# Altium footprint library PCB - POWER INDUCTORS - TDK SLF12555.PCBLIB: 1 footprints
Each footprint in its own frame and in the unit in brackets; x right, y up, seen from the top. Pads: shape width x height; smd on the part's side, far side on the other; paste and mask are expansions set on the pad; w line width, h text height; cw(c..) or ccw(c..) is an arc to the next point about the centre after c.
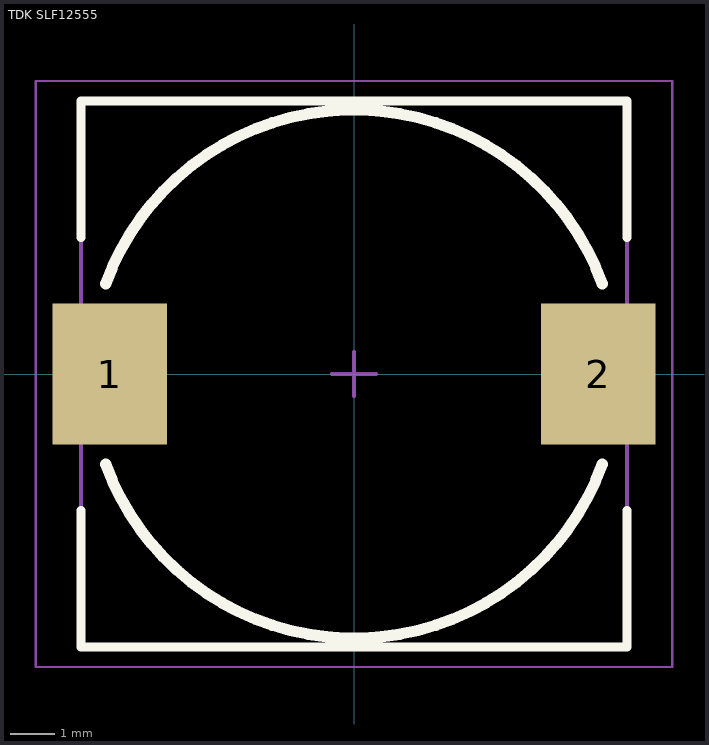
[diagram p0: the footprint, top view; thin cyan lines are the x and y axes]

## TDK SLF12555 [mm] "Precision Wire Wound Inductor, 2-Leads, Body 12.50x12.50mm, IPC Medium Density"
height 5.5
pads (2):
  rect 2.6x3.2 smd: 1(-5.55,0) 2(5.55,0)
Top Overlay:
  lines w0.2: -6.2,-3.1 -6.2,-6.2 6.2,-6.2 6.2,-3.1 ; -6.2,3.1 -6.2,6.2 6.2,6.2 6.2,3.1
  lines w0.254: -5.639,-2.05 ccw(c0,0) 5.639,-2.05 ; -5.639,2.05 cw(c0,0) 5.639,2.05
Mechanical 13:
  lines w0.1: -6.2,-6.2 6.2,-6.2 6.2,6.2 -6.2,6.2 -6.2,-6.2
Mechanical 15:
  lines w0.05: -7.225,-6.65 7.225,-6.65 7.225,6.65 -7.225,6.65 -7.225,-6.65
  lines w0.1: -0.5,0 0.5,0 ; 0,-0.5 0,0.5
3D body "TDK - SLF12555.step": height 5.53, standoff 0, extent -6.335,-6.325 6.335,6.325